# Altium footprint library LM321LVIDCKR.PcbLib: 4 footprints
Each footprint in its own frame and in the unit in brackets; x right, y up, seen from the top. Pads: shape width x height; smd on the part's side, far side on the other; paste and mask are expansions set on the pad; w line width, h text height; cw(c..) or ccw(c..) is an arc to the next point about the centre after c.
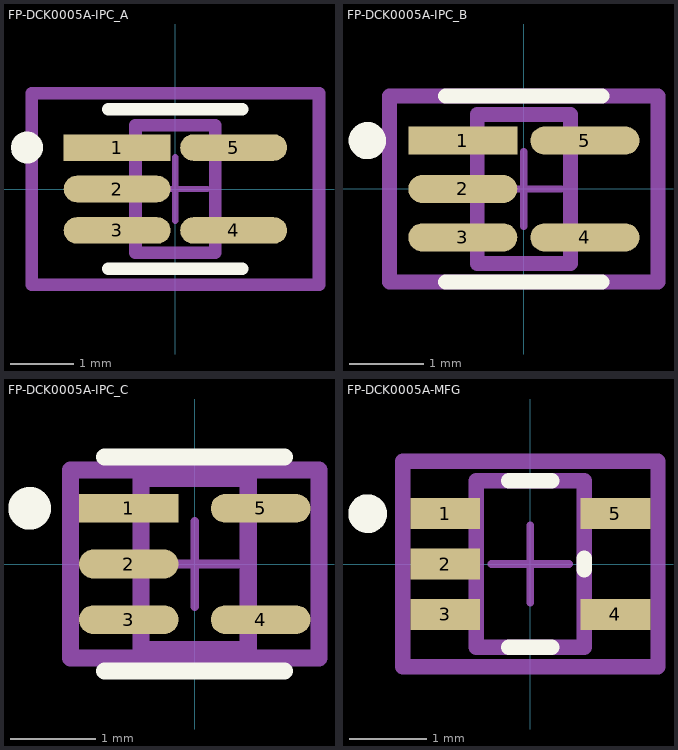
[diagram p0: the footprints below, top view; thin cyan lines are the x and y axes]

## FP-DCK0005A-IPC_A [mm]
pads (5):
  rect 1.677x0.416 smd paste+0 mask+0: 1(-0.914,0.65)
  rrect100% 1.677x0.416 smd paste+0 mask+0: 2(-0.914,0) 3(-0.914,-0.65) 4(0.914,-0.65) 5(0.914,0.65)
Top Overlay:
  circle w0.25: c-2.327,0.65 r0.125
  lines w0.2: -1.05,-1.25 1.05,-1.25 ; -1.05,1.25 1.05,1.25
Top Assembly:
  lines w0.2: -2.252,-1.5 2.252,-1.5 2.252,1.5 -2.252,1.5 -2.252,-1.5
  text ".Designator" at 0,0.188 h1
Top 3D Body:
  lines w0.2: -0.625,-1 0.625,-1 0.625,1 -0.625,1 -0.625,-1
Top Courtyard:
  lines w0.2: -2.252,-1.5 2.252,-1.5 2.252,1.5 -2.252,1.5 -2.252,-1.5
Top Component Center:
  lines w0.1: -0.5,0 0.5,0 ; 0,-0.5 0,0.5

## FP-DCK0005A-IPC_B [mm]
pads (5):
  rect 1.464x0.376 smd paste+0 mask+0: 1(-0.82,0.65)
  rrect100% 1.464x0.376 smd paste+0 mask+0: 2(-0.82,0) 3(-0.82,-0.65) 4(0.82,-0.65) 5(0.82,0.65)
Top Overlay:
  circle w0.25: c-2.102,0.65 r0.125
  lines w0.2: -1.05,-1.25 1.05,-1.25 ; -1.05,1.25 1.05,1.25
Top Assembly:
  lines w0.2: -1.802,-1.25 1.802,-1.25 1.802,1.25 -1.802,1.25 -1.802,-1.25
  text ".Designator" at 0,0.188 h1
Top 3D Body:
  lines w0.2: -0.625,-1 0.625,-1 0.625,1 -0.625,1 -0.625,-1
Top Courtyard:
  lines w0.2: -1.802,-1.25 1.802,-1.25 1.802,1.25 -1.802,1.25 -1.802,-1.25
Top Component Center:
  lines w0.1: -0.5,0 0.5,0 ; 0,-0.5 0,0.5

## FP-DCK0005A-IPC_C [mm]
pads (5):
  rect 1.164x0.336 smd paste+0 mask+0: 1(-0.77,0.65)
  rrect100% 1.164x0.336 smd paste+0 mask+0: 2(-0.77,0) 3(-0.77,-0.65) 4(0.77,-0.65) 5(0.77,0.65)
Top Overlay:
  circle w0.25: c-1.927,0.65 r0.125
  lines w0.2: -1.05,-1.25 1.05,-1.25 ; -1.05,1.25 1.05,1.25
Top Assembly:
  lines w0.2: -1.452,-1.1 1.452,-1.1 1.452,1.1 -1.452,1.1 -1.452,-1.1
  text ".Designator" at 0,0.188 h1
Top 3D Body:
  lines w0.2: -0.625,-1 0.625,-1 0.625,1 -0.625,1 -0.625,-1
Top Courtyard:
  lines w0.2: -1.452,-1.1 1.452,-1.1 1.452,1.1 -1.452,1.1 -1.452,-1.1
Top Component Center:
  lines w0.1: -0.5,0 0.5,0 ; 0,-0.5 0,0.5

## FP-DCK0005A-MFG [mm]
pads (5):
  rect 0.9x0.4 smd paste-1000 mask+0: 1(-1.1,0.65) 2(-1.1,0) 3(-1.1,-0.65) 4(1.1,-0.65) 5(1.1,0.65)
Top Overlay:
  circle w0.25: c-2.1,0.65 r0.125
  lines w0.2: -0.275,-1.075 0.275,-1.075 ; -0.275,1.075 0.275,1.075 ; 0.7,-0.075 0.7,0.075
Top Paste:
  rectangle: 0.675,-0.825 1.525,-0.475
  rectangle: 0.675,0.475 1.525,0.825
  rectangle: -1.525,-0.825 -0.675,-0.475
  rectangle: -1.525,-0.175 -0.675,0.175
  rectangle: -1.525,0.475 -0.675,0.825
Top Assembly:
  lines w0.2: -1.65,-1.325 1.65,-1.325 1.65,1.325 -1.65,1.325 -1.65,-1.325
  text ".Designator" at 0,0 h1
Top 3D Body:
  lines w0.2: -0.7,-1.075 0.7,-1.075 0.7,1.075 -0.7,1.075 -0.7,-1.075
Top Courtyard:
  lines w0.2: -1.65,-1.325 1.65,-1.325 1.65,1.325 -1.65,1.325 -1.65,-1.325
Top Component Center:
  lines w0.1: -0.5,0 0.5,0 ; 0,-0.5 0,0.5
3D body "IC_Texas_Instruments_SN74AHC1G04DCKR_eec.STEP": height 0.25, standoff 0, extent -1.65,-1.325 1.65,1.325